# EAGLE library part SCHROFF-30925-001_13 (library 1A-meinLib)
Leiterplatten-Stromschiene, 30A, 2.5 mOhm/m, 13 Lötstifte, 190mm lg., Schroff 30925-001
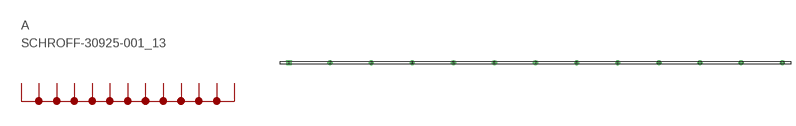
[diagram p263: symbol with the pads of SCHROFF-30925-001_190LG; footprint SCHROFF-30925-001_190LG]

Designator prefix A

## SCHROFF-30925-001_13  [SCHROFF-30925-001_190LG]
1  P$1  pas
2  P$2  pas
3  P$3  pas
4  P$4  pas
5  P$5  pas
6  P$6  pas
7  P$7  pas
8  P$8  pas
9  P$9  pas
10  P$10  pas
11  P$11  pas
12  P$12  pas
13  P$13  pas

## Footprint SCHROFF-30925-001_190LG (pad centres in mm)
Leiterplatten-Stromschiene, 30A, 2.5 mOhm/m, 13 Lötstifte, 190mm lg., Schroff 30925-001
drill 1.3 square: 1 0,0
drill 1.3 round: 2 15.24,0; 3 30.48,0; 4 45.72,0; 5 60.96,0; 6 76.2,0; 7 91.44,0; 8 106.68,0; 9 121.92,0; 10 137.16,0; 11 152.4,0; 12 167.64,0; 13 182.88,0